# Altium footprint library PCB - LEADED - ATPAK - ONSC.PCBLIB: 1 footprints
Each footprint in its own frame and in the unit in brackets; x right, y up, seen from the top. Pads: shape width x height; smd on the part's side, far side on the other; paste and mask are expansions set on the pad; w line width, h text height; cw(c..) or ccw(c..) is an arc to the next point about the centre after c.
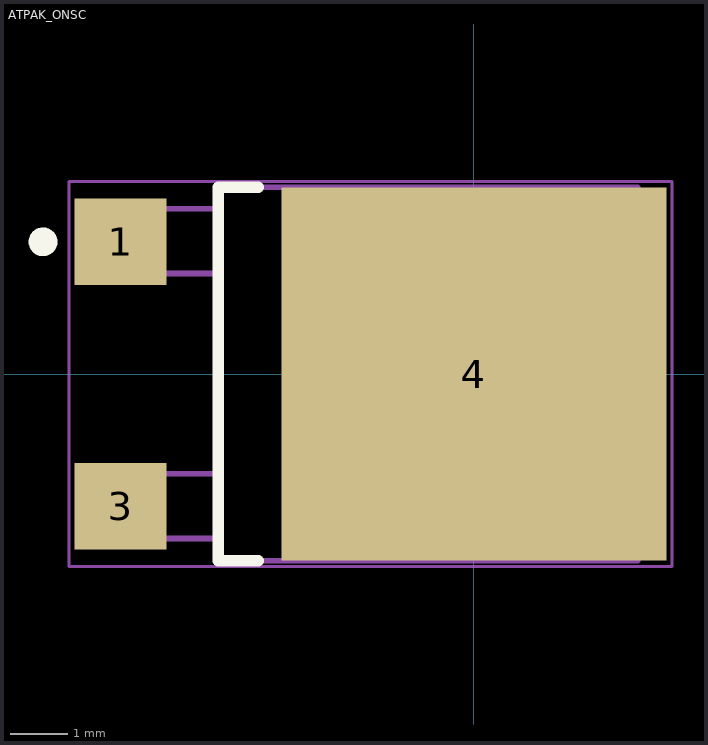
[diagram p0: the footprint, top view; thin cyan lines are the x and y axes]

## ATPAK_ONSC [mm] "DPAK, 3-Leads, Body 7.3x6.5mm, Pitch 2.3mm"
height 1.77
pads (3):
  rect 1.6x1.5 smd: 1(-6.15,2.3) 3(-6.15,-2.3)
  rect 6.7x6.5 smd: 4(0,0)
Top Overlay:
  circle w0.25: c-7.5,2.3 r0.125
  lines w0.2: -3.75,-3.25 -4.45,-3.25 -4.45,3.25 -3.75,3.25
M5 Assembly Top:
  lines w0.1: -4.5,-2.863 -6.45,-2.863 -6.45,-1.737 -4.475,-1.737 ; -4.475,1.75 -6.425,1.75 -6.425,2.875 -4.45,2.875 ; -4.45,-3.25 -4.45,3.25 2.85,3.25 2.85,-3.25 -4.45,-3.25
  text ".Designator" at -2.4,-0.7 h1.52
Mechanical 15:
  lines w0.05: -7.05,-3.35 3.45,-3.35 ; -7.05,-3.35 -7.05,3.35 ; -7.05,-3.35 3.45,-3.35 ; -7.05,-3.35 -7.05,3.35 ; -7.05,3.35 3.45,3.35 ; -7.05,3.35 3.45,3.35 ; 3.45,-3.35 3.45,3.35 ; 3.45,-3.35 3.45,3.35
  lines w0.1: -0.5,0 0.5,0 ; 0,-0.5 0,0.5
3D body: height 1.77, standoff 0.02, extent -4.45,-3.25 2.85,3.25